# Altium schematic symbol library murri.SchLib: 5 symbols
Pins are listed as number, name and electrical type; pins without a type are passive.

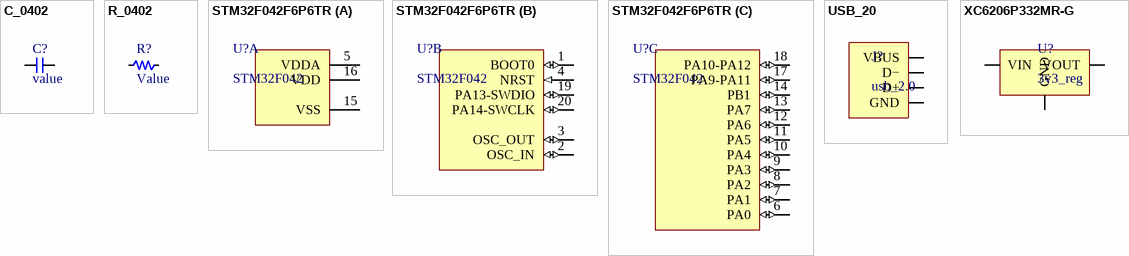
[diagram p0: symbols C_0402 to XC6206P332MR-G]

## C_0402
designator C?, comment value
0402 cap
footprint C0402 (Chip Capacitor, 2-Leads, Body 1.00x0.50mm, IPC Medium Density)
pins: 1, 2

## R_0402
designator R?, comment Value
0402 62.5mW
footprint R0402 (Chip Resistor, 2-Leads, Body 1.00x0.50mm, IPC Medium Density)
pins: 1, 2

## STM32F042F6P6TR
designator U?, comment STM32F042
32KB 1.65V~3.6V ARM-M0 48MHz 16 TSSOP-20(4.4x6.5) Microcontrollers (MCU/MPU/SOC) ROHS; LCSC: C2969989
footprint TSSOP20_ST (TSOP, 20-Leads, Body 6.50x4.40mm, Pitch 0.65mm, IPC Medium Density)
part A pins: 5 VDDA (power), 15 VSS (power), 16 VDD (power)
part B pins: 1 BOOT0 (io), 2 OSC_IN (io), 3 OSC_OUT (io), 4 NRST (in), 19 PA13-SWDIO (io), 20 PA14-SWCLK (io)
part C pins: 6 PA0 (io), 7 PA1 (io), 8 PA2 (io), 9 PA3 (io), 10 PA4 (io), 11 PA5 (io), 12 PA6 (io), 13 PA7 (io), 14 PB1 (io), 17 PA9-PA11 (io), 18 PA10-PA12 (io)

## USB_20
designator J?, comment usb_2.0  (no BOM)
USB 2.0 PCB
footprint USB_20 (USB 2.0 PCB footprint)
pins: 1 VBUS, 2 D−, 3 D+, 4 GND

## XC6206P332MR-G
designator U?, comment 3v3_reg
/ 200mA Fixed 3.3V Positive electrode 6V SOT-23-3L Voltage Regulators - Linear, Low Drop Out (LDO) Regulators ROHS; LCSC: C5446
footprint SOT23_torex (SOT23, 3-Leads, Body 2.90x2.80mm, Pitch 0.95mm, IPC Medium Density)
pins: 1 GND, 2 VOUT, 3 VIN